# EAGLE library part SCV-W2523X-06 (library canivete)
Soquete para SIM Card
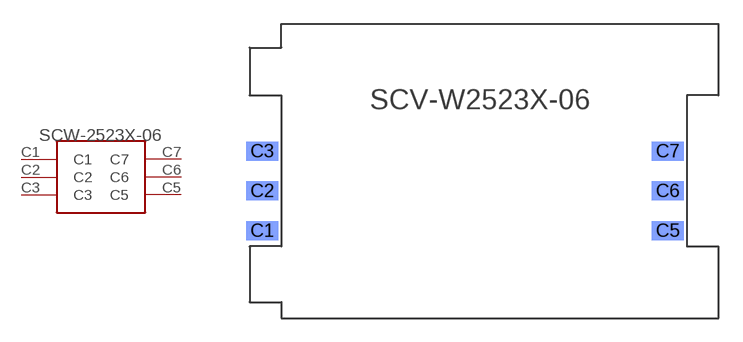
[diagram p1: symbol with the pads of SCV-W2523X-06; footprint SCV-W2523X-06]

Designator prefix -

## SCV-W2523X-06  [SCV-W2523X-06]
C1  C1
C2  C2
C3  C3
C5  C5
C6  C6
C7  C7

## Footprint SCV-W2523X-06 (pad centres in mm)
Soquete para SIM Card
smd 2 x 1.2 bottom: C1 -14.39,-5.08; C2 -14.39,-2.58; C3 -14.39,-0.08; C5 11.11,-5.08; C6 11.11,-2.58; C7 11.11,-0.08